# EAGLE library part TL431ACD (library TL431ACD)
TL431ACD, Adjustable Voltage Reference 2.5 to 36V, 1% 100mA 37V max. 8-Pin SOIC Source: Datasheet <https://www.ti.com/lit/ds/symlink/tl431.pdf?HQS=TI-null-null-mousermode-df-pf-null-wwe&ts=1593427466636&ref_url=https%3A%2F%2Fwww.mouser.in%2F>
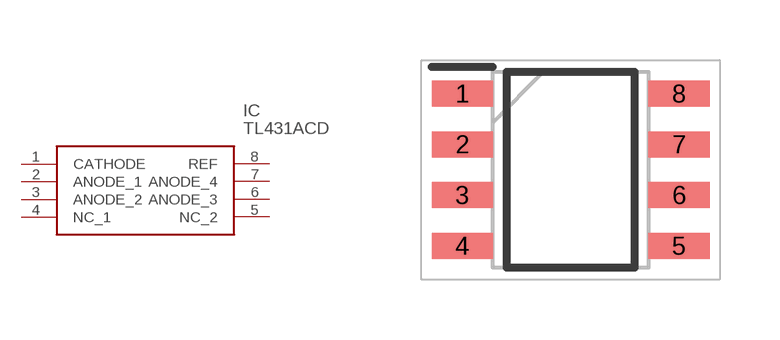
[diagram p0: symbol with the pads of SOIC127P600X175-8N; footprint SOIC127P600X175-8N]

Designator prefix IC

## TL431ACD (Description: TL431ACD, Adjustable Voltage Reference 2.5 to 36V, 1% 100mA 37V max. 8-Pin SOIC; Height: 1.75mm; Manufacturer_Name: Texas Instruments; Manufacturer_Part_Number: TL431ACD; Mouser_Part_Number: 595-TL431ACD; Mouser_Price-Stock: https://www.mouser.co.uk/ProductDetail/Texas-Instruments/TL431ACD?qs=b0gIXGU74fOOZ7NbSZF2Kg%3D%3D)  [SOIC127P600X175-8N]
1  CATHODE
2  ANODE_1
3  ANODE_2
4  NC_1
5  NC_2
6  ANODE_3
7  ANODE_4
8  REF

## Footprint SOIC127P600X175-8N (pad centres in mm)
D0008A
smd 1.528 x 0.65: 1 -2.711,1.905; 2 -2.711,0.635; 3 -2.711,-0.635; 4 -2.711,-1.905; 5 2.711,-1.905; 6 2.711,-0.635; 7 2.711,0.635; 8 2.711,1.905